# EAGLE library part ESP8266-12E (library ESP8266-ESP12E)
ESP8266-12E with additional I/O and GPIO04/05 corrected The author cannot warrant that this library is free from error or will meet your specific requirements. Created by PuceBaboon.com. Komagane, Nagano, JAPAN
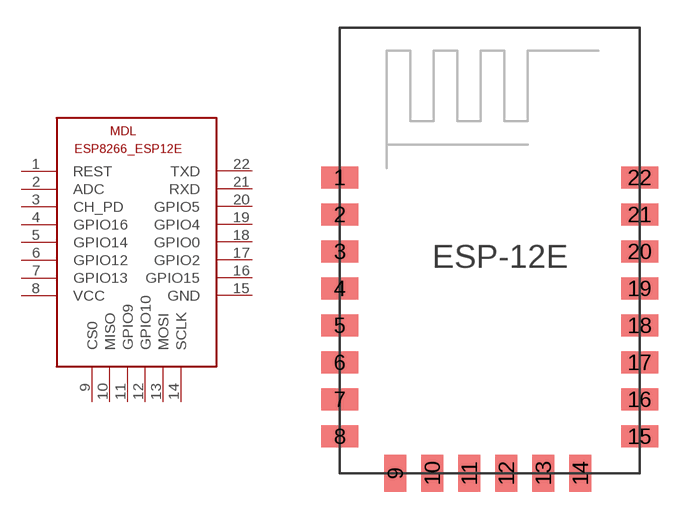
[diagram p0: symbol with the pads of ESP8266-ESP12E; footprint ESP8266-ESP12E]

Designator prefix MDL

## ESP8266-12EESP8266-ESP12E  [ESP8266-ESP12E]
1  REST
2  ADC
3  CH_PD
4  GPIO16
5  GPIO14
6  GPIO12
7  GPIO13
8  VCC
9  CS0
10  MISO
11  GPIO9
12  GPIO10
13  MOSI
14  SCLK
15  GND
16  GPIO15
17  GPIO2
18  GPIO0
19  GPIO4
20  GPIO5
21  RXD
22  TXD

## Footprint ESP8266-ESP12E (pad centres in mm)
ESP8266-12E with additional I/O and GPIO04/05 corrected The author cannot warrant that this library is free from error or will meet your specific requirements. Created by PuceBaboon.com. Komagane, Nagano, JAPAN
smd 2 x 1.2: 1 -7.62,5.84; 2 -7.62,3.84; 3 -7.62,1.84; 4 -7.62,-0.16; 5 -7.62,-2.16; 6 -7.62,-4.16; 7 -7.62,-6.16; 8 -7.62,-8.16; 15 8.58,-8.16; 16 8.58,-6.16; 17 8.58,-4.16; 18 8.58,-2.16; 19 8.58,-0.16; 20 8.58,1.84; 21 8.58,3.84; 22 8.58,5.84
smd 1.2 x 2: 9 -4.62,-10.16; 10 -2.62,-10.16; 11 -0.62,-10.16; 12 1.38,-10.16; 13 3.38,-10.16; 14 5.38,-10.16